# Altium schematic symbol library SCH - PASSIVES - FERRITE BEAD CHIP.Schlib: 1 symbol
Pins are listed as number, name and electrical type; pins without a type are passive.

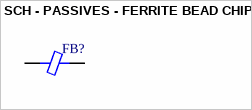
[diagram p0: symbol SCH - PASSIVES - FERRITE BEAD CHIP]

## SCH - PASSIVES - FERRITE BEAD CHIP
designator FB?
pins: 1, 2